# EAGLE library part PINHEAD_PINHD-1X7 (library RWD 1Mb RAM Memory CPC v2_0)
PIN HEADER
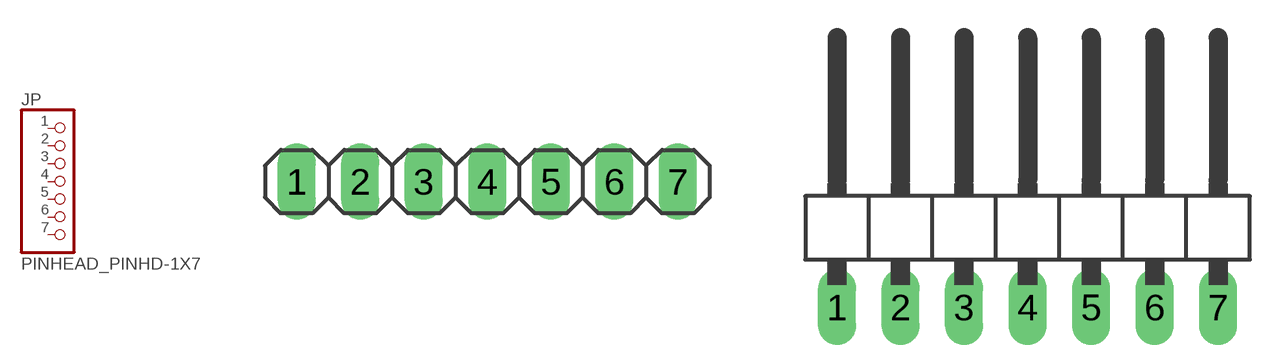
[diagram p3: symbol with the pads of PINHEAD_1X07; footprints PINHEAD_1X07, PINHEAD_1X07/90]

Designator prefix JP

## PINHEAD_PINHD-1X7  [PINHEAD_1X07]
1  1  pas
2  2  pas
3  3  pas
4  4  pas
5  5  pas
6  6  pas
7  7  pas

## PINHEAD_PINHD-1X7/90  [PINHEAD_1X07/90]
Pads as for PINHEAD_1X07

## Footprint PINHEAD_1X07 (pad centres in mm)
PIN HEADER
drill 1.016 long: 1 -7.62,0; 2 -5.08,0; 3 -2.54,0; 4 0,0; 5 2.54,0; 6 5.08,0; 7 7.62,0

## Footprint PINHEAD_1X07/90 (pad centres in mm)
PIN HEADER
drill 1.016 long: 1 -7.62,-3.81; 2 -5.08,-3.81; 3 -2.54,-3.81; 4 0,-3.81; 5 2.54,-3.81; 6 5.08,-3.81; 7 7.62,-3.81